# EAGLE library part BMP180 (library zortness)
Bosch BMP180 Altimeter Modified LGA-7 package Code compatable with BMP085 DigiKey <http://www.digikey.com/product-detail/en/BMP180/828-1027-1-ND/2688260> Datasheet <http://ae-bst.resource.bosch.com/media/products/dokumente/bmp180/BST-BMP180-DS000-08.pdf>
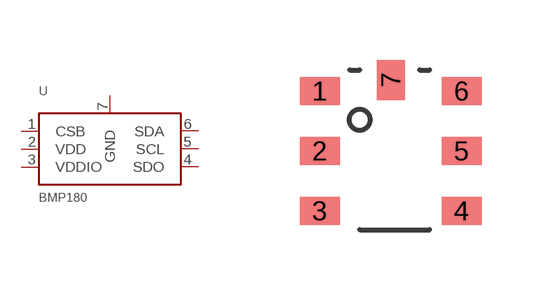
[diagram p13: symbol with the pads of BMP180; footprint BMP180]

Designator prefix U

## BMP180  [BMP180]
1  CSB  nc
2  VDD  pwr
3  VDDIO  pwr
4  SDO  nc
5  SCL
6  SDA
7  GND  pwr

## Footprint BMP180 (pad centres in mm)
BMP180 Modified LGA7 DigiKey <http://www.digikey.com/product-detail/en/BMP180/828-1027-1-ND/2688260> Datasheet <http://ae-bst.resource.bosch.com/media/products/dokumente/bmp180/BST-BMP180-DS000-08.pdf>
smd 1 x 0.7: 1 0,-0.275; 2 0,-1.775; 3 0,-3.275; 4 3.55,-3.275; 5 3.55,-1.775; 6 3.55,-0.275
smd 0.7 x 1: 7 1.775,0